# EAGLE library part LT5510F (library custom)
RF Active Mixer IC Balanced 0.001-6GHz 0dBm LO
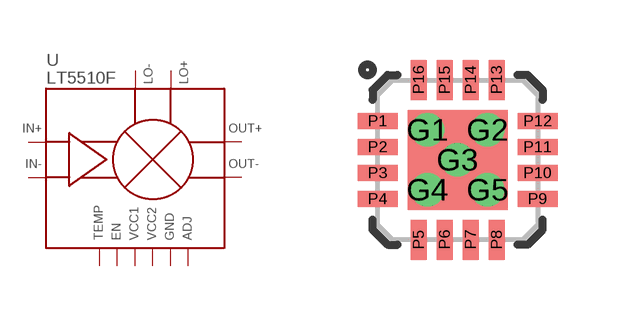
[diagram p84: symbol with the pads of 16-QFN; footprint 16-QFN]

Designator prefix U

## LT5510F  [16-QFN]
G1  GND
G2  GND
G3  GND
G4  GND
G5  GND
P1  TEMP
P2  IN+
P3  IN-
P4  GND
P5  EN
P6  VCC1
P7  VCC2
P8  ADJ
P9  GND
P10  OUT-
P11  OUT+
P12  GND
P13  GND
P14  LO-
P15  LO+
P16  GND

## Footprint 16-QFN (pad centres in mm)
drill 0.33: G1 -0.75,0.75; G2 0.75,0.75; G3 0,0; G4 -0.75,-0.75; G5 0.75,-0.75
smd 1 x 0.4: P1 -2,0.975; P2 -2,0.325; P3 -2,-0.325; P4 -2,-0.975; P9 2,-0.975; P10 2,-0.325; P11 2,0.325; P12 2,0.975
smd 0.4 x 1: P5 -0.975,-2; P6 -0.325,-2; P7 0.325,-2; P8 0.975,-2; P13 0.975,2; P14 0.325,2; P15 -0.325,2; P16 -0.975,2